# EAGLE library part DP83848I (library X893)
http://cache.national.com/ds/DP/DP83848I.pdf
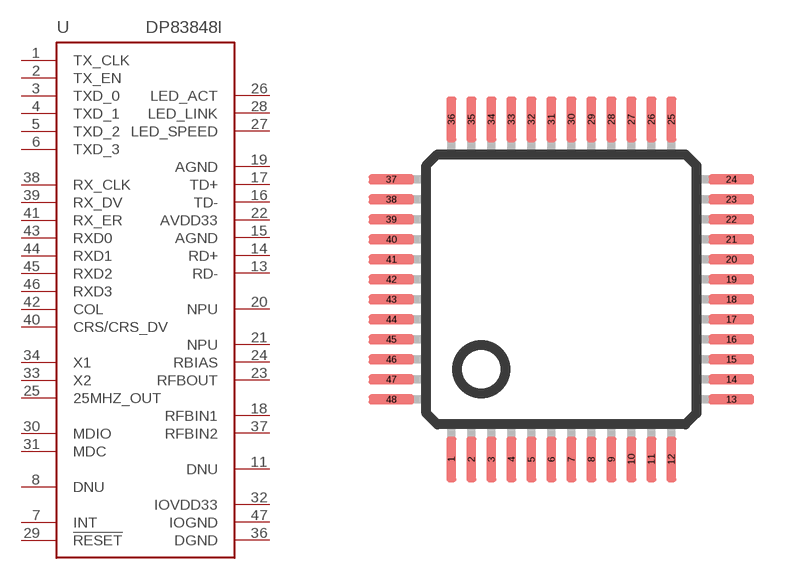
[diagram p36: symbol with the pads of LQFP48; footprint LQFP48]

Designator prefix U

## DP83848I  [LQFP48]
1  TX_CLK  in
2  TX_EN  in
3  TXD_0  in
4  TXD_1  in
5  TXD_2  in
6  TXD_3  in
7  INT
8  DNU  nc
9  DNU
10  DNU
11  DNU  nc
12  DNU  nc
13  RD-  nc
14  RD+  nc
15  AGND  pwr
16  TD-  nc
17  TD+  nc
18  RFBIN1  pas
19  AGND  pwr
20  NPU  pas
21  NPU  pas
22  AVDD33  nc
23  RFBOUT  pas
24  RBIAS  pas
25  25MHZ_OUT
26  LED_ACT  out
27  LED_SPEED  out
28  LED_LINK  out
29  !RESET  in
30  MDIO
31  MDC  in
32  IOVDD33  pwr
33  X2
34  X1  in
35  IOGND  pwr
36  DGND  pwr
37  RFBIN2  pas
38  RX_CLK  out
39  RX_DV  out
40  CRS/CRS_DV  out
41  RX_ER  out
42  COL  out
43  RXD0  out
44  RXD1  out
45  RXD2  out
46  RXD3  out
47  IOGND  pwr
48  IOVDD33  pwr

## Footprint LQFP48 (pad centres in mm)
smd 0.254 x 1.143: 1 -2.75,-4.25; 2 -2.25,-4.25; 3 -1.75,-4.25; 4 -1.25,-4.25; 5 -0.75,-4.25; 6 -0.25,-4.25; 7 0.25,-4.25; 8 0.75,-4.25; 9 1.25,-4.25; 10 1.75,-4.25; 11 2.25,-4.25; 12 2.75,-4.25; 25 2.75,4.25; 26 2.25,4.25; 27 1.75,4.25; 28 1.25,4.25; 29 0.75,4.25; 30 0.25,4.25; 31 -0.25,4.25; 32 -0.75,4.25; 33 -1.25,4.25; 34 -1.75,4.25; 35 -2.25,4.25; 36 -2.75,4.25
smd 1.143 x 0.254: 13 4.25,-2.75; 14 4.25,-2.25; 15 4.25,-1.75; 16 4.25,-1.25; 17 4.25,-0.75; 18 4.25,-0.25; 19 4.25,0.25; 20 4.25,0.75; 21 4.25,1.25; 22 4.25,1.75; 23 4.25,2.25; 24 4.25,2.75; 37 -4.25,2.75; 38 -4.25,2.25; 39 -4.25,1.75; 40 -4.25,1.25; 41 -4.25,0.75; 42 -4.25,0.25; 43 -4.25,-0.25; 44 -4.25,-0.75; 45 -4.25,-1.25; 46 -4.25,-1.75; 47 -4.25,-2.25; 48 -4.25,-2.75